# Altium schematic symbol library Voltage Regulators.SchLib: 22 symbols
Pins are listed as number, name and electrical type; pins without a type are passive.

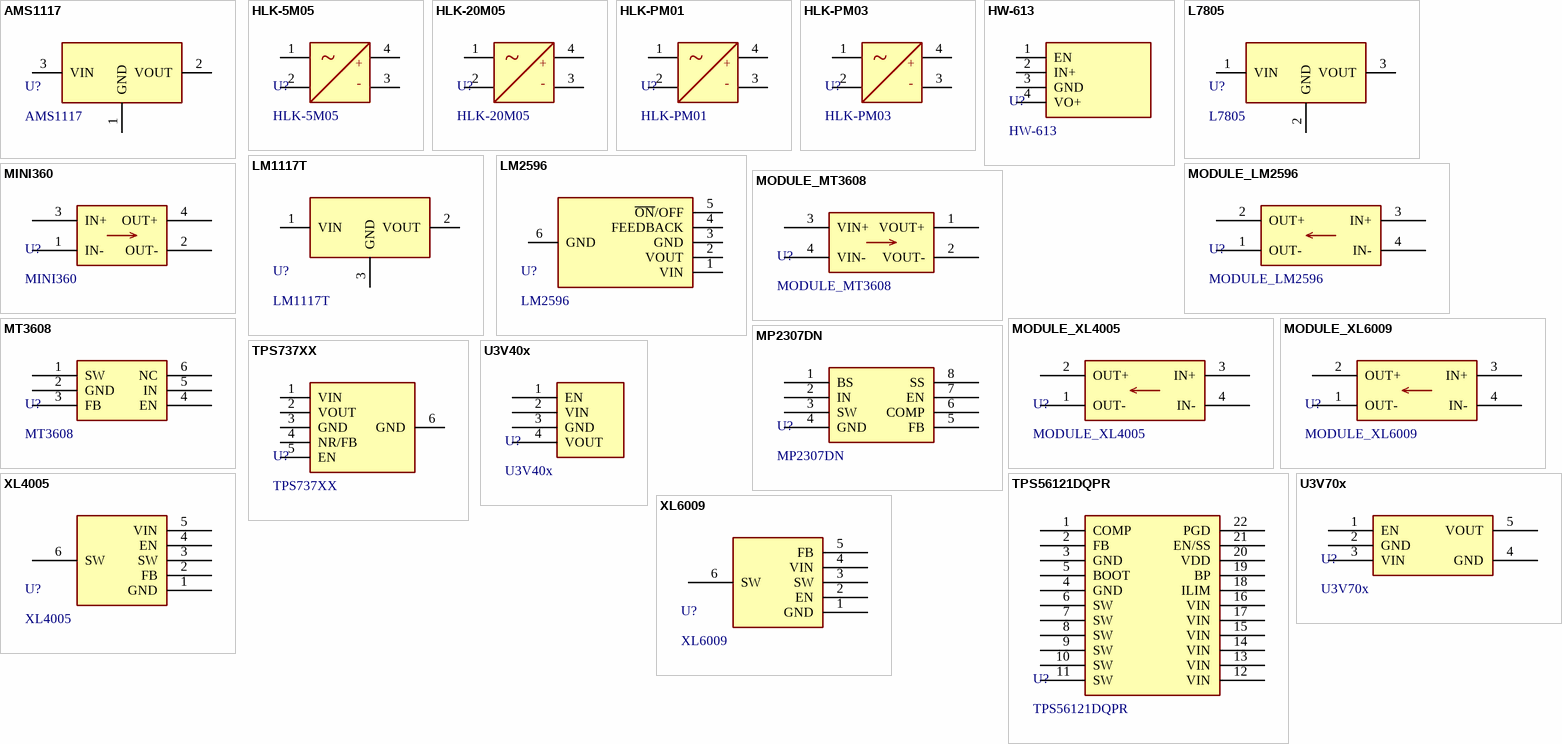
[diagram p0: symbols AMS1117 to XL6009]

## AMS1117
designator U?
IC REG LINEAR 1A SOT-89-3L; ComponentLink1Description: Datasheet; ComponentLink1URL: http://www.advanced-monolithic.com/pdf/ds1117.pdf; Digikey PN: 4518-AMS1117-3.3CT-ND; JLCPCB PN: C963410
footprint AMS1117 (SOT-223)
pins: 1 GND, 2 VOUT, 3 VIN

## HLK-5M05
designator U?
Mini Power Supply HLK-5M05 100~240VAC to 5VDC 1A 5W.
footprint HLK-5M05
pins: 1, 2, 3, 4
text: ~; +; -

## HLK-20M05
designator U?
Mini Power Supply HLK-20M05 100~240VAC to 5VDC 4A 20W.
footprint HLK-20M05
pins: 1, 2, 3, 4
text: ~; +; -

## HLK-PM01
designator U?
Mini Power Supply HLK-5M05 100~240VAC to 5VDC 0.6A 3W.
footprint HLK-PM01
pins: 1, 2, 3, 4
text: ~; +; -

## HLK-PM03
designator U?
Mini Power Supply HLK-PM03 100~240VAC to 3.3VDC 1A 3W.
footprint HLK-PM03
pins: 1, 2, 3, 4
text: ~; +; -

## HW-613
designator U?
MODULE BUCK STEP DOWN 3A 20x11mm
footprint HW-613
pins: 1 EN, 2 IN+, 3 GND, 4 VO+

## L7805
designator U?
IC REG LINEAR 5V 1.5A TO220AB; ComponentLink1Description: Datasheet; ComponentLink1URL: https://www.mouser.com/datasheet/2/389/l78-1849632.pdf; Mouser PN: 511-L7805CV; Digikey PN: 497-1443-5-ND; JLCPCB PN PTH: C347289; JLCPCB PN SMD: C15077
footprint L7805_90 (TO-220)
footprint L7805_180 (TO-220)
footprint L7805_smd (TO-252-3)
pins: 1 VIN, 2 GND, 3 VOUT

## LM1117T
designator U?
IC REG LINEAR 800MA TO220-3; ComponentLink1Description: Datasheet; ComponentLink1URL: https://www.ti.com/lit/ds/symlink/lm1117.pdf?HQS=dis-mous-null-mousermode-dsf-pf-null-wwe&ts=1673551072249&ref_url=https%253A%252F%252Fwww.mouser.com%252F; Mouser PN: 926-LM1117T-3.3/NOPB; Digikey PN: LM1117T-3.3/NOPB-ND; JLCPCB PN: C498319
footprint LM1117T_180 (TO-220)
footprint LM1117T_90 (TO-220)
pins: 1 VIN, 2 VOUT, 3 GND

## LM2596
designator U?
IC BUCK STEP DOWN 3A TO-263-6; ComponentLink1Description: Datasheet; ComponentLink1URL: https://www.ti.com/lit/ds/symlink/lm2596.pdf; Mouser PN: 863-LM2596DSADJG; Digikey PN: 4518-LM2596S-ADJCT-ND; JLCPCB PN: C2980822
footprint LM2596 (TO-263-5)
pins: 1 VIN, 2 VOUT, 3 GND, 4 FEEDBACK, 5 ~{ON}/OFF, 6 GND

## MINI360
designator U?
MODULE BUCK STEP DOWN 3A 18x12mm; ComponentLink1Description: Datasheet; ComponentLink1URL: https://cdn-shop.adafruit.com/datasheets/MP2307_r1.9.pdf
footprint MINI360 (MODULE BUCK STEP DOWN 3A 18x12mm)
pins: 1 IN-, 2 OUT-, 3 IN+, 4 OUT+

## MODULE_LM2596
designator U?
MODULE BUCK STEP DOWN 3A 43x20mm; ComponentLink1Description: Datasheet; ComponentLink1URL: https://www.ti.com/lit/ds/symlink/lm2596.pdf
footprint MODULE_LM2596 (MODULE BUCK STEP DOWN 3A 43x20mm)
pins: 1 OUT-, 2 OUT+, 3 IN+, 4 IN-

## MODULE_MT3608
designator U?
MODULE BUCK STEP UP 2A 37x17mm; ComponentLink1Description: Datasheet; ComponentLink1URL: https://www.olimex.com/Products/Breadboarding/BB-PWR-3608/resources/MT3608.pdf
footprint MODULE_MT3608 (MODULE BUCK STEP UP 2A)
pins: 1 VOUT+, 2 VOUT-, 3 VIN+, 4 VIN-

## MODULE_XL4005
designator U?
MODULE BUCK STEP DOWN 5A 44x21mm; ComponentLink1Description: Datasheet; ComponentLink1URL: https://www.laskakit.cz/user/related_files/xl4005_datasheet.pdf
footprint MODULE_XL4005 (MODULE BUCK STEP DOWN 5A 44x21mm)
pins: 1 OUT-, 2 OUT+, 3 IN+, 4 IN-

## MODULE_XL6009
designator U?
MODULE BUCK STEP UP 5A 44x21mm
footprint MODULE_XL6009 (MODULE BUCK STEP UP 5A 44x21mm)
pins: 1 OUT-, 2 OUT+, 3 IN+, 4 IN-

## MP2307DN
designator U?
IC BUCK STEP DOW 3A SOIC8N
footprint MP2307DN (SOIC8N)
pins: 1 BS, 2 IN, 3 SW, 4 GND, 5 FB, 6 COMP, 7 EN, 8 SS

## MT3608
designator U?
IC BUCK STEP UP 2A SOT23-6; ComponentLink1Description: Datasheet; ComponentLink1URL: https://www.olimex.com/Products/Breadboarding/BB-PWR-3608/resources/MT3608.pdf; JLCPCB PN: C84817
footprint MT3608 (SOT-23-6)
pins: 1 SW, 2 GND, 3 FB, 4 EN, 5 IN, 6 NC

## TPS737XX
designator U?
IC REG LINEAR 1A SOT223-6 130mV DROPOUT; ComponentLink1Description: Datasheet; ComponentLink1URL: https://www.ti.com/lit/ds/symlink/tps737.pdf?HQS=dis-mous-null-mousermode-dsf-pf-null-wwe&ts=1673550101133&ref_url=https%253A%252F%252Fwww.mouser.it%252F; Mouser PN: 595-TPS73733DCQ; Digikey PN: 296-22681-1-ND; JLCPCB PN: C31334
footprint TPS737XX (SOT223-6)
pins: 1 VIN, 2 VOUT, 3 GND, 4 NR/FB, 5 EN, 6 GND

## TPS56121DQPR
designator U?
IHC BUCK STEP DOWN CONVERTER UP 15A PQFN; Digikey PN: 296-37678-2-ND; ComponentLink1Description: Datasheet; ComponentLink1URL: https://www.ti.com/lit/ds/symlink/tps56121.pdf?ts=1678731201020&ref_url=https%253A%252F%252Fwww.google.com%252F; Mouser PN: 595-TPS56121DQPR; JLCPCB PN: C494501
footprint TPS56121DQPR (LSON-CLIP-22-EP(5x6))
pins: 1 COMP, 2 FB, 3 GND, 4 GND, 5 BOOT, 6 SW, 7 SW, 8 SW, 9 SW, 10 SW, 11 SW, 12 VIN, 13 VIN, 14 VIN, 15 VIN, 16 VIN, 17 VIN, 18 ILIM, 19 BP, 20 VDD, 21 EN/SS, 22 PGD

## U3V40x
designator U?
Pololu Step-Up Voltage Regulators 4A.; Link: https://www.pololu.com/category/287/u3v40x-step-up-voltage-regulators
footprint U3V40x
pins: 1 EN, 2 VIN, 3 GND, 4 VOUT

## U3V70x
designator U?
Pololu Step-Up Voltage Regulators 8A.; Link: https://www.pololu.com/category/243/u3v70x-step-up-voltage-regulators
footprint U3V70x
pins: 1 EN, 2 GND, 3 VIN, 4 GND, 5 VOUT

## XL4005
designator U?
IC BUCK STEP DOWN 5A TO-263-5L; ComponentLink1Description: Datasheet; ComponentLink1URL: https://www.laskakit.cz/user/related_files/xl4005_datasheet.pdf; JLCPCB PN: C73332
footprint TO-263-5L
pins: 1 GND, 2 FB, 3 SW, 4 EN, 5 VIN, 6 SW

## XL6009
designator U?
IC BOOST STEP UP 5A TO-263-5L
footprint TO-263-5L
pins: 1 GND, 2 EN, 3 SW, 4 VIN, 5 FB, 6 SW